# Altium schematic symbol library HyTechExternal.SCHLIB: 21 symbols
Pins are listed as number, name and electrical type; pins without a type are passive.

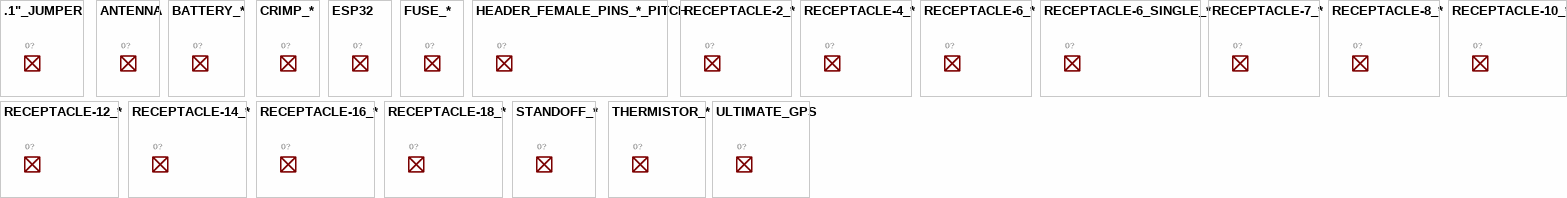
[diagram p0: symbols .1"_JUMPER to ULTIMATE_GPS]

## .1"_JUMPER
designator O?, comment 2 Position Jumper Shunt Connector - .1" Pitch  Datasheet  (value not drawn)
MANUFACTURER: Sullins Connector Solutions; MPN: SPC02SVJN-RC; GateName_1: G$1; SymbolName_1: ORDERING; DeviceSetName: .1"_JUMPER; DKPN: S9344-ND; LibraryName: HyTechExternal

## ANTENNA
designator O?, comment Antenna for GPS/Xbee  Datasheet  (value not drawn)
MANUFACTURER: PulseLarsen Antennas; MPN: W3906B0100; GateName_1: G$1; SymbolName_1: ORDERING; DKPN: 1837-1002-ND; MOPN: 673-W3906B0100; LibraryName: HyTechExternal; DeviceSetName: ANTENNA

## BATTERY_*
designator O?, comment Battery   CR-1/3N  (value not drawn)
MANUFACTURER: FDK America, Inc., a member of Fujitsu Group; MPN: CR-1-3N; GateName_1: G$1; SymbolName_1: ORDERING; DeviceSetName: BATTERY_*; BATTERY_TYPE: 1/3N; DKPN: SY100-ND; MOPN: 639-CR1/3N; VOLTAGE: 3V; LibraryName: HyTechExternal

## CRIMP_*
designator O?, comment Crimp   Microfit, 20-24  Nanofit, 20-22  (value not drawn)
MANUFACTURER: Molex; MPN: 0430300003; MPN: 105300-2300; GateName_1: G$1; SymbolName_1: ORDERING; DeviceSetName: CRIMP_*; DKPN: WM2776CT-ND; MOPN: 538-43030-0003; DKPN: WM15011TR-ND; MOPN: 538-105300-2300; LibraryName: HyTechExternal; GAUGE: 20-24; GAUGE: 20-22

## ESP32
designator O?, comment Adafruit Huzzah32  Datasheet  (value not drawn)
MANUFACTURER: Adafruit Industries LLC; MPN: 3405; GateName_1: G$1; SymbolName_1: ORDERING; DeviceSetName: ESP32; DKPN: 1528-2181-ND; LibraryName: HyTechExternal

## FUSE_*
designator O?, comment Fuse   MINI Blade  (value not drawn)
MANUFACTURER: OptiFuse; MPN: ANM58-1A; MANUFACTURER: Littelfuse; MPN: 0297010.WXNV; MANUFACTURER: Littelfuse Inc.; MPN: 0297002.WXNV; GateName_1: G$1; SymbolName_1: ORDERING; DeviceSetName: FUSE_*; DKPN: 2298-ANM58-1A-ND; DKPN: F991-ND; MOPN: 576-0297010.WXNV; CURRENT: 2A; DKPN: F986-ND; FUSE_TYPE: MINI 297; MOPN: 576-0297002.WXNV; LibraryName: HyTechExternal

## HEADER_FEMALE_PINS_*_PITCH
designator O?
MANUFACTURER: Sullins Connector Solutions; MPN: PPPC131LFBN-RC; MPN: PPPC141LFBN-RC; MPN: PPPC241LFBN-RC; MPN: PPPC021LFBN-RC; GateName_1: G$1; SymbolName_1: ORDERING; DeviceSetName: HEADER_FEMALE_PINS_*_PITCH; DKPN: S7046-ND; DKPN: S7047-ND; DKPN: S7057-ND; DKPN: S7035-ND; LibraryName: HyTechExternal

## RECEPTACLE-2_*
designator O?, comment Receptacle, 2 Pin   Microfit  Nanofit  (value not drawn)
MANUFACTURER: Molex; MPN: 0436450200; MPN: 105307-1202; GateName_1: G$1; SymbolName_1: ORDERING; DeviceSetName: RECEPTACLE-2_*; DKPN: WM1845-ND; MOPN: 538-43645-0200; DKPN: WM14958-ND; MOPN: 538-105307-1202; LibraryName: HyTechExternal

## RECEPTACLE-4_*
designator O?, comment Receptacle, 4 Pin   Microfit  Nanofit  (value not drawn)
MANUFACTURER: Molex; MPN: 0430250408; MPN: 105308-1204; GateName_1: G$1; SymbolName_1: ORDERING; DeviceSetName: RECEPTACLE-4_*; DKPN: WM11225-ND; MOPN: 538-43025-0408; DKPN: WM14962-ND; MOPN: 538-105308-1204; LibraryName: HyTechExternal

## RECEPTACLE-6_*
designator O?, comment Receptacle, 6 Pin   Microfit  Nanofit  (value not drawn)
MANUFACTURER: Molex; MPN: 0430250608; MPN: 105308-1206; GateName_1: G$1; SymbolName_1: ORDERING; DeviceSetName: RECEPTACLE-6_*; DKPN: WM13209-ND; MOPN: 538-43025-0608; DKPN: WM14963-ND; MOPN: 538-105308-1206; LibraryName: HyTechExternal

## RECEPTACLE-6_SINGLE_*
designator O?
MANUFACTURER: Molex; MPN: 0436450608; GateName_1: G$1; SymbolName_1: ORDERING; DeviceSetName: RECEPTACLE-6_SINGLE_*; DKPN: WM13217-ND; MOPN: 538-43645-0608; LibraryName: HyTechExternal

## RECEPTACLE-7_*
designator O?
MANUFACTURER: Molex; MPN: 0436450700; GateName_1: G$1; SymbolName_1: ORDERING; DeviceSetName: RECEPTACLE-7_*; DKPN: WM2405-ND; MOPN: 538-43645-0700; LibraryName: HyTechExternal

## RECEPTACLE-8_*
designator O?, comment Receptacle, 8 Pin   Microfit  Nanofit  (value not drawn)
MANUFACTURER: Samtec Inc; MPN: ZW-04-11-G-D-522-158; MANUFACTURER: Molex; MPN: 0430250808; MPN: 105308-1208; GateName_1: G$1; SymbolName_1: ORDERING; DeviceSetName: RECEPTACLE-8_*; DKPN: ZW-04-11-G-D-522-158-ND; MOPN: 200-ZW0411GD522158; DKPN: WM13210-ND; MOPN: 538-43025-0808; DKPN: WM14964-ND; MOPN: 538-105308-1208; LibraryName: HyTechExternal

## RECEPTACLE-10_*
designator O?, comment Receptacle, 10 Pin   Microfit  (value not drawn)
MANUFACTURER: Molex; MPN: 0430251008; GateName_1: G$1; SymbolName_1: ORDERING; DeviceSetName: RECEPTACLE-10_*; DKPN: WM16255-ND; MOPN: 538-43025-1008; LibraryName: HyTechExternal

## RECEPTACLE-12_*
designator O?, comment Receptacle, 12 Pin   Microfit  (value not drawn)
MANUFACTURER: Molex; MPN: 430251200; GateName_1: G$1; SymbolName_1: ORDERING; DeviceSetName: RECEPTACLE-12_*; DKPN: WM1788-ND; MOPN: 538-43025-1200; LibraryName: HyTechExternal

## RECEPTACLE-14_*
designator O?, comment Receptacle, 14 Pin   Microfit  (value not drawn)
MANUFACTURER: Molex; MPN: 430251400; GateName_1: G$1; SymbolName_1: ORDERING; DeviceSetName: RECEPTACLE-14_*; DKPN: 0430251400; MOPN: 538-43025-1400; LibraryName: HyTechExternal

## RECEPTACLE-16_*
designator O?, comment Receptacle, 16 Pin   Microfit  (value not drawn)
MANUFACTURER: Molex; MPN: 0430251600; GateName_1: G$1; SymbolName_1: ORDERING; DeviceSetName: RECEPTACLE-16_*; DKPN: WM2490-ND; MOPN: 538-43025-1600; LibraryName: HyTechExternal

## RECEPTACLE-18_*
designator O?, comment Receptacle, 18 Pin   Microfit  (value not drawn)
MANUFACTURER: Molex; MPN: 0430251800; GateName_1: G$1; SymbolName_1: ORDERING; DeviceSetName: RECEPTACLE-18_*; DKPN: WM2491-ND; MOPN: 538-43025-1800; LibraryName: HyTechExternal

## STANDOFF_*
designator O?, comment Standoffs   Bivar M3  (value not drawn)
MANUFACTURER: Bivar Inc.; MPN: MSB3.0-05SP; GateName_1: G$1; SymbolName_1: ORDERING; DeviceSetName: STANDOFF_*; DKPN: MSB3.0-05SP-ND; MOPN: 749-MSB3.0-05SP; SCREW: 3mm; LibraryName: HyTechExternal; HEIGHT: 5mm

## THERMISTOR_*
designator O?, comment Thermistor   NTC Lug Series  (value not drawn)
MANUFACTURER: Vishay Beyschlag/Draloric/BC Components; MPN: NTCALUG02A103F161A; GateName_1: G$1; SymbolName_1: ORDERING; DeviceSetName: THERMISTOR_*; B: 3984K; B_RANGE: 25/85; DKPN: 56-NTCALUG02A103F161A-ND; MOPN: 594-NTLUG02A103F161A; TOLERANCE_B: 0.5%; TOLERANCE_RESISTANCE: 1%; LibraryName: HyTechExternal

## ULTIMATE_GPS
designator O?, comment Adafruit Ultimate GPS  Datasheet  (value not drawn)
MANUFACTURER: Adafruit Industries LLC; MPN: 746; GateName_1: G$1; SymbolName_1: ORDERING; DeviceSetName: ULTIMATE_GPS; DKPN: 1528-1153-ND; MOPN: 485-746; LibraryName: HyTechExternal